# Altium schematic symbol library DiscreteSemiconductors.SchLib: 7 symbols
Pins are listed as number, name and electrical type; pins without a type are passive.

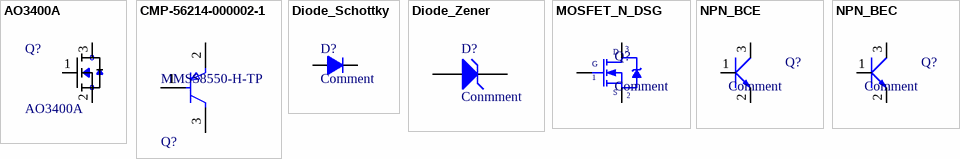
[diagram p0: symbols AO3400A to NPN_BEC]

## AO3400A
designator Q?
=Description /
pins: 1 G, 2 S, 3 D

## CMP-56214-000002-1
designator Q?, comment MMSS8550-H-TP
=Description /; Polarity: PNP; Max Breakdown Voltage: 25V; Emitter Base Voltage (VEBO): 1.6V; Collector Base Voltage (VCBO): 40V; Collector Emitter Saturation Voltage: 500mV; Max Power Dissipation: 625mW; Max Collector Current: 1.5A; Transition Frequency: 100MHz; Element Configuration: Single; hFE Min: 40; Lead Free: Lead Free; Package Quantity: 1; Min Operating Temperature: -55°C; Case/Package: SOT-23; Mount: Surface Mount; Packaging: Tape and Reel; Collector Emitter Voltage (VCEO): 500mV; Max Operating Temperature: 150°C; Gain Bandwidth Product: 100MHz; Collector Emitter Breakdown Voltage: 25V
pins: 1 B, 2 E, 3 C

## Diode_Schottky
designator D?, comment Comment
=Description /
pins: 1 A, 2 K

## Diode_Zener
designator D?, comment Conmment
=Description /
pins: 1 A, 2 K

## MOSFET_N_DSG
designator Q?, comment Comment
=Description /
pins: 1 G, 2 S, 3 D

## NPN_BCE
designator Q?, comment Comment
=Description /
pins: 1 B, 2 C, 3 E

## NPN_BEC
designator Q?, comment Comment
=Description /
pins: 1 B, 2 E, 3 C